# Altium schematic symbol library Voltage Divider.SchLib: 1 symbol
Pins are listed as number, name and electrical type; pins without a type are passive.

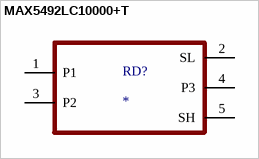
[diagram p0: symbol MAX5492LC10000+T]

## MAX5492LC10000+T
designator RD?
Res NET 9.09K Ohm/910 Ohm 0.1% 0.5714W Â±35ppm/Â°C VOLT/D 5-Pin SOT-23 Gull Wing SMD T/R; MF: Maxim Integrated Products; MP: MAX5492LC10000+T; SnapEDA_Link: https://www.snapeda.com/parts/MAX5492LC10000+T/Maxim+Integrated/view-part/?ref=snap; Package: None; Value: *; Check_prices: https://www.snapeda.com/parts/MAX5492LC10000+T/Maxim+Integrated/view-part/?ref=eda
footprint SOT95P280X145-5N
pins: 1 P1, 2 SL, 3 P2, 4 P3, 5 SH